# Altium footprint library personal_library.PcbLib: 59 footprints (part 4 of 4)
Each footprint in its own frame and in the unit in brackets; x right, y up, seen from the top. Pads: shape width x height; smd on the part's side, far side on the other; paste and mask are expansions set on the pad; w line width, h text height; cw(c..) or ccw(c..) is an arc to the next point about the centre after c.
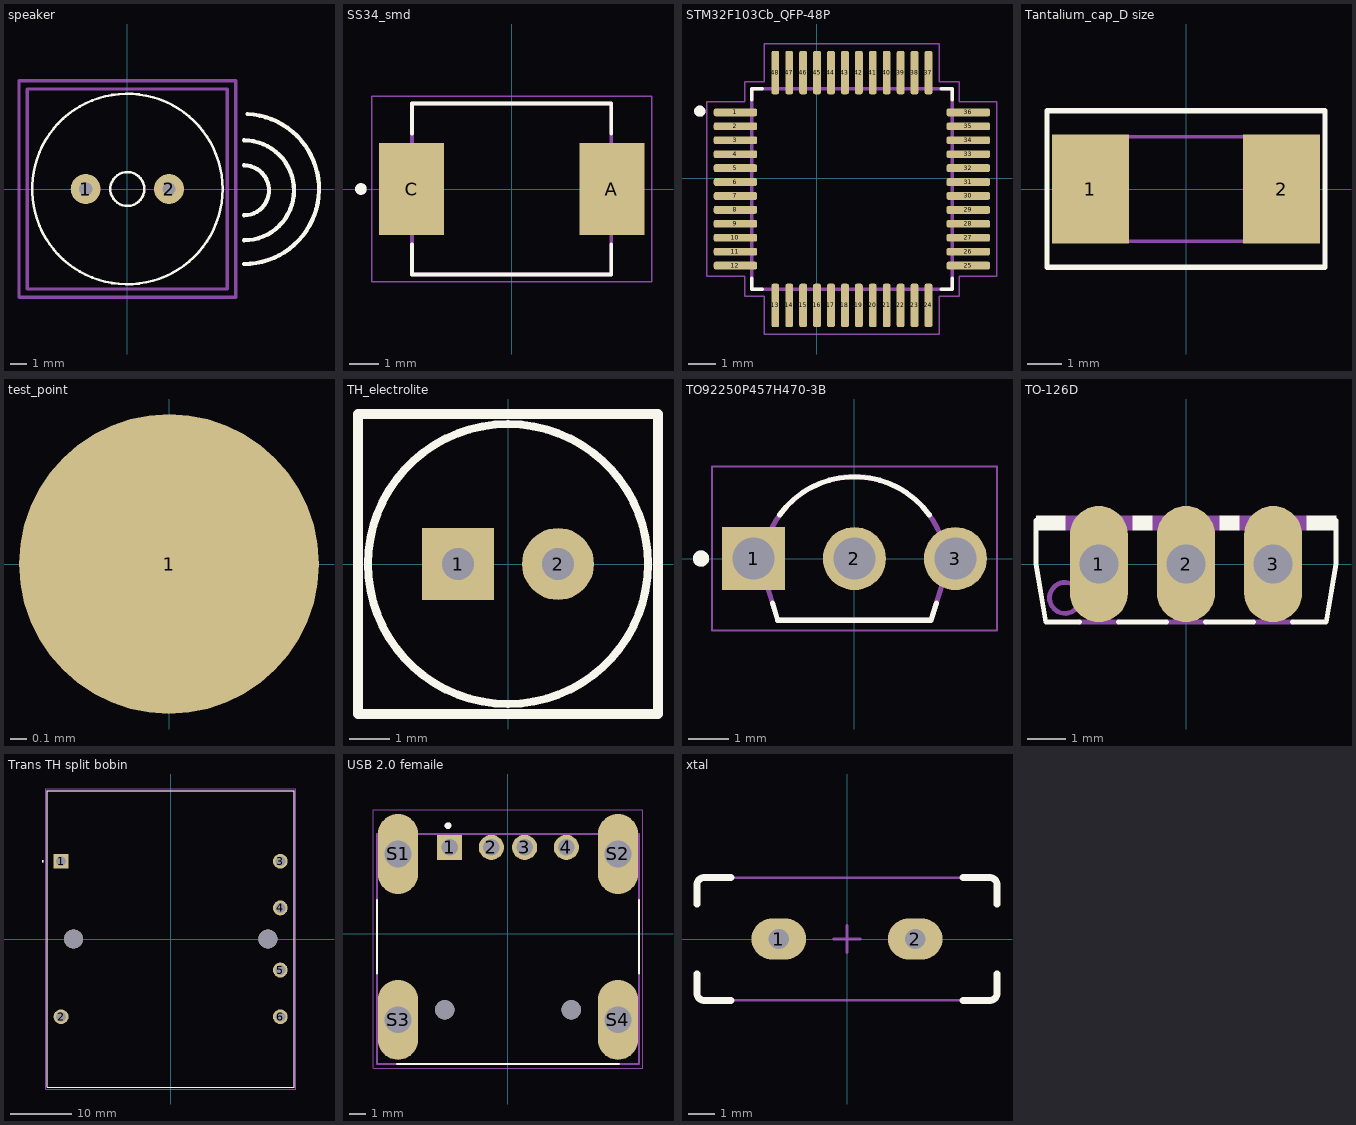
[diagram p3: the footprints below, top view; thin cyan lines are the x and y axes]

## speaker [mm]
pads (2):
  round 1.8 hole 0.8: 1(-2.5,0) 2(2.5,0)
Top Overlay:
  circle w0.152: c0,0 r1.016
  circle w0.152: c0,0 r5.715
  lines w0.254: 7,-4.5 ccw(c7,0) 7.214,4.495 ; 7,-3.081 ccw(c7,-0.081) 7,2.919 ; 7,-1.581 ccw(c7,-0.081) 7,1.419
Mechanical 1:
  lines w0.2: -6.5,-6.5 6.5,-6.5 6.5,-6 6.5,6.5 -6.5,6.5 -6.5,-6.5 ; -6,-6 -6,6 6,6 6,-6 -6,-6

## SS34_smd [mm]
pads (2):
  rect 2.25x3.18 smd: A(3.455,0) C(-3.455,0)
Top Overlay:
  circle w0.2: c-5.2,0 r0.1
  lines w0.127: -3.437,-1.91 -3.437,-2.95 3.437,-2.95 3.437,-1.91 ; -3.437,1.91 -3.437,2.95 3.437,2.95 3.437,1.91
Mechanical 13:
  circle w0.2: c-5.2,0 r0.1
  lines w0.127: -3.437,-2.95 -3.437,2.95 3.437,2.95 3.437,-2.95 -3.437,-2.95
Mechanical 15:
  lines w0.05: -4.83,-3.2 4.83,-3.2 4.83,3.2 -4.83,3.2 -4.83,-3.2
3D body "step_temp.STEP": height 2.65, standoff 0, extent -3.975,-2.95 3.975,2.95

## STM32F103Cb_QFP-48P [mm]
pads (48):
  rrect50% 1.56x0.28 smd: 1(-2.91,2.369) 2(-2.91,1.869) 3(-2.91,1.369) 4(-2.91,0.869) 5(-2.91,0.369) 6(-2.91,-0.131) 7(-2.91,-0.631) 8(-2.91,-1.131) 9(-2.91,-1.631) 10(-2.91,-2.131) 11(-2.91,-2.631) 12(-2.91,-3.131) 25(5.45,-3.131) 26(5.45,-2.631) 27(5.45,-2.131) 28(5.45,-1.631) 29(5.45,-1.131) 30(5.45,-0.631) 31(5.45,-0.131) 32(5.45,0.369) 33(5.45,0.869) 34(5.45,1.369) 35(5.45,1.869) 36(5.45,2.369)
  rrect50% 0.28x1.56 smd: 13(-1.48,-4.561) 14(-0.98,-4.561) 15(-0.48,-4.561) 16(0.02,-4.561) 17(0.52,-4.561) 18(1.02,-4.561) 19(1.52,-4.561) 20(2.02,-4.561) 21(2.52,-4.561) 22(3.02,-4.561) 23(3.52,-4.561) 24(4.02,-4.561) 37(4.02,3.799) 38(3.52,3.799) 39(3.02,3.799) 40(2.52,3.799) 41(2.02,3.799) 42(1.52,3.799) 43(1.02,3.799) 44(0.52,3.799) 45(0.02,3.799) 46(-0.48,3.799) 47(-0.98,3.799) 48(-1.48,3.799)
Top Overlay:
  circle w0.2: c-4.191,2.413 r0.1
  lines w0.127: -2.33,-3.591 -2.33,-3.981 -1.94,-3.981 ; -2.33,2.829 -2.33,3.219 -1.94,3.219 ; 4.48,-3.981 4.87,-3.981 4.87,-3.591 ; 4.48,3.219 4.87,3.219 4.87,2.829
Mechanical 13:
  circle w0.2: c-4.191,2.413 r0.1
  lines w0.127: -2.33,-3.981 -2.33,3.219 4.87,3.219 4.87,-3.981 -2.33,-3.981
Mechanical 15:
  lines w0.05: -3.94,-3.521 -2.58,-3.521 -2.58,-4.231 -1.87,-4.231 -1.87,-5.591 4.41,-5.591 4.41,-4.231 5.12,-4.231 5.12,-3.521 6.48,-3.521 6.48,2.759 5.12,2.759 5.12,3.469 4.41,3.469 4.41,4.829 -1.87,4.829 -1.87,3.469 -2.58,3.469 -2.58,2.759 -3.94,2.759 -3.94,-3.521
3D body "step_temp.STEP": height 1.6, standoff 0, extent -3.23,-4.881 5.77,4.119

## Tantalium_cap_D size [mm]
pads (2):
  rect 2.25x3.18 smd: 1(-2.794,0) 2(2.794,0)
Top Overlay:
  lines w0.15: -4.064,-2.286 4.064,-2.286 4.064,2.286 -4.064,2.286 -4.064,-2.286
Mechanical 13:
  lines w0.1: -3.048,-1.524 3.048,-1.524 3.048,1.524 -3.048,1.524 -3.048,-1.524
3D body "TAJD477M006RNJ.STEP": height 4.1, standoff 1, extent -3.65,-2.15 3.65,2.15

## test_point [mm]
pads (1):
  round 1.8 smd: 1(0,0)

## TH_electrolite [mm]
pads (2):
  rect 1.8x1.8 hole 0.8: 1(-1.25,0)
  round 1.8 hole 0.8: 2(1.25,0)
Top Overlay:
  circle w0.2: c0,0 r3.5
  lines w0.254: -3.75,-3.75 -3.75,3.75 3.75,3.75 3.75,-3.75 -3.75,-3.75
3D body "User Library-Cap electrolitic radial 6x7.STEP": height 7.3, standoff -1.2, extent -2.999,-2.999 2.999,2.998

## TO92250P457H470-3B [mm]
pads (3):
  rect 1.56x1.56 / inner round 1.56 / far side rect 1.56x1.56 hole 1.04: 1(-2.5,0)
  round 1.56 hole 1.04: 2(0,0) 3(2.5,0)
Top Overlay:
  circle w0.2: c-3.8,0 r0.1
  lines w0.127: -2.034,-1.1 -1.9,-1.528 1.9,-1.528 2.034,-1.1 ; -1.851,1.085 cw(c0,-0.26) 1.851,1.085
Mechanical 13:
  circle w0.2: c-3.8,0 r0.1
  lines w0.127: -2.288,-0.26 cw(c0,-0.26) 2.288,-0.26 1.9,-1.528 -1.9,-1.528 -2.288,-0.26
Mechanical 15:
  lines w0.05: -3.53,-1.777 3.53,-1.777 3.53,2.278 -3.53,2.278 -3.53,-1.777
3D body "step_temp.STEP": height 4.7, standoff -12.7, extent -2.25,-1.25 2.25,2.25

## TO-126D [mil]
pads (3):
  oval 60x120 hole 40: 1(-90,0) 2(0,0) 3(90,0)
Top Overlay:
  region: 155,35 125,35 125,50 155,50
  region: 55,35 35,35 35,50 55,50
  region: -35,35 -55,35 -55,50 -35,50
  region: -125,35 -155,35 -155,50 -125,50
  lines w5: -155,45 -155,0 -145,-60 -110,-60 ; -70,-60 -20,-60 ; 20,-60 70,-60 ; 110,-60 145,-60 155,0 155,45
Mechanical 13:
  circle w5: c-125,-35 r16
  region: 125,35 55,35 55,50 125,50
  region: 35,35 -35,35 -35,50 35,50
  region: -55,35 -125,35 -125,50 -55,50
  lines w5: -110,-60 -70,-60 ; -20,-60 20,-60 ; 70,-60 110,-60
  text "3" at 80,-25 h50
  text "2" at -15,-25 h50
  text "1" at -100,-25 h50
3D body "step_temp.STEP": height 519.68, standoff -545.28, extent -149.61,-59.33 149.61,45

## Trans TH split bobin [mm]
pads (8):
  rect 2.43x2.43 hole 1.62: 1(-17.907,12.7)
  round 2.43 hole 1.62: 2(-17.907,-12.7) 3(17.907,12.7) 4(17.907,5.08) 5(17.907,-5.08) 6(17.907,-12.7)
  round 3.1 hole 3.1 unplated: ""(-15.875,0) ""(15.875,0)
Top Overlay:
  circle w0.2: c-20.895,12.7 r0.1
  lines w0.127: -20.193,-24.257 -20.193,24.257 20.193,24.257 20.193,-24.257 -20.193,-24.257
Mechanical 13:
  circle w0.2: c-20.895,12.7 r0.1
  lines w0.127: -20.193,-24.257 20.193,-24.257 20.193,24.257 -20.193,24.257 -20.193,-24.257
Mechanical 15:
  lines w0.05: -20.443,-24.507 -20.443,24.507 20.443,24.507 20.443,-24.507 -20.443,-24.507

## USB 2.0 femaile [mm]
pads (10):
  rect 1.508x1.508 hole 1: 1(-3.5,5.175)
  round 1.508 hole 1: 2(-1,5.175) 3(1,5.175) 4(3.5,5.175)
  oval 2.4x4.8 hole 1.6 square: S1(-6.6,4.775) S2(6.6,4.775) S3(-6.6,-5.175) S4(6.6,-5.175)
  round 1.16 hole 1.16 unplated: ""(-3.8,-4.575) ""(3.8,-4.575)
Top Overlay:
  circle w0.2: c-3.6,6.475 r0.1
  lines w0.127: -7.85,-2.405 -7.85,2.005 ; -6.65,-7.825 6.65,-7.825 ; 7.85,-2.405 7.85,2.005
Mechanical 13:
  circle w0.2: c-3.6,6.475 r0.1
  lines w0.127: -7.85,-7.825 -7.85,5.975 7.85,5.975 7.85,-7.825 -7.85,-7.825
Mechanical 15:
  lines w0.05: -8.1,-8.075 -8.1,7.425 8.1,7.425 8.1,-8.075 -8.1,-8.075
3D body "1674459-4.stp": height 8.29, standoff -2.47, extent -7.723,-7.958 7.977,5.842

## xtal [mil]
pads (2):
  oval 80x60 hole 30: 1(-100,0) 2(100,0)
Top Overlay:
  lines w10: -220,-51 -220,-80 ccw(c-210,-80) -210,-90 -170,-90 ; -220,51 -220,80 cw(c-210,80) -210,90 -170,90 ; 170,-90 210,-90 ccw(c210,-80) 220,-80 220,-51 ; 170,90 210,90 cw(c210,80) 220,80 220,51
Mechanical 9:
  lines w4: -220,-51 -220,-80 ccw(c-210,-80) -210,-90 -170,-90 ; -220,51 -220,80 cw(c-210,80) -210,90 -170,90 ; 170,-90 210,-90 ccw(c210,-80) 220,-80 220,-51 ; 170,90 210,90 cw(c210,80) 220,80 220,51
Top Component Center:
  lines w3.94: -170,-90 170,-90 ; -170,90 170,90 ; -19.68,0 19.68,0 ; 0,-19.68 0,19.68
3D body "Download_STP_830003063B_rev1.stp": height 461.42, standoff -200, extent -217.51,-92.51 217.53,92.52